# EAGLE library part GSD09002SEU (library SamacSys_Parts)
Memory Card Connectors SD, 9 pos, 15U Source: Datasheet <https://www.arrow.com/en/products/gsd09002seu/amphenol>
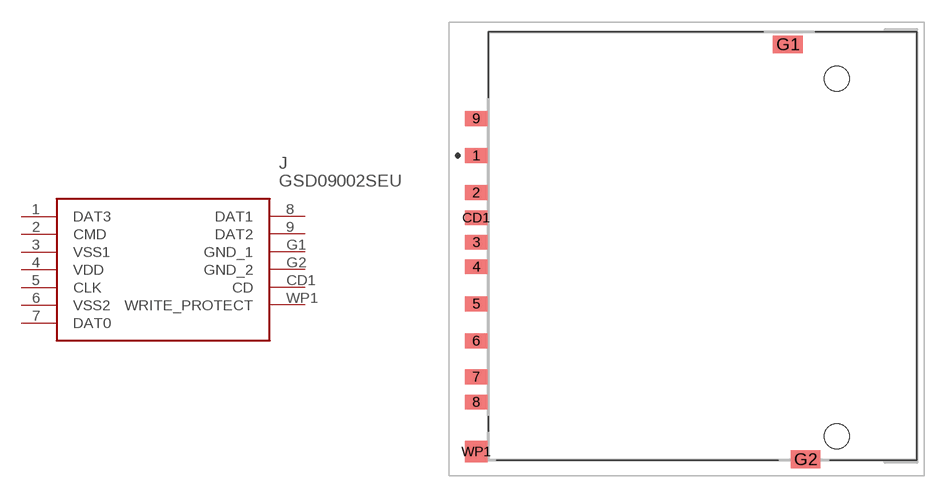
[diagram p3: symbol with the pads of GSD09002SEU; footprint GSD09002SEU]

Designator prefix J

## GSD09002SEU (DESCRIPTION: Memory Card Connectors SD, 9 pos, 15U; HEIGHT: 2.75mm; MANUFACTURER_NAME: Amphenol; MANUFACTURER_PART_NUMBER: GSD09002SEU; MOUSER_PART_NUMBER: 523-GSD09002SEU; MOUSER_PRICE-STOCK: https://www.mouser.co.uk/ProductDetail/Amphenol-Commercial-Products/GSD09002SEU?qs=J%2Fw1naXNy4LtG6w9y13mdQ%3D%3D)  [GSD09002SEU]
1  DAT3
2  CMD
3  VSS1
4  VDD
5  CLK
6  VSS2
7  DAT0
8  DAT1
9  DAT2
CD1  CD
G1  GND_1
G2  GND_2
WP1  WRITE_PROTECT

## Footprint GSD09002SEU (pad centres in mm)
GSD09002SEU-1
smd 1.5 x 1: 1 -14.183,6.3; 2 -14.183,3.8; 3 -14.183,0.45; 4 -14.183,-1.2; 5 -14.183,-3.7; 6 -14.183,-6.2; 7 -14.183,-8.63; 8 -14.183,-10.33; 9 -14.183,8.8; CD1 -14.183,2.1
smd 2 x 1.2: G1 6.827,13.8; G2 8.027,-14.2
smd 1.5 x 1.45: WP1 -14.183,-13.68
hole 1.7 at 10.127,11.5
hole 1.7 at 10.127,-12.65